# EAGLE library part FT8U100AX (library FT8U100AX)
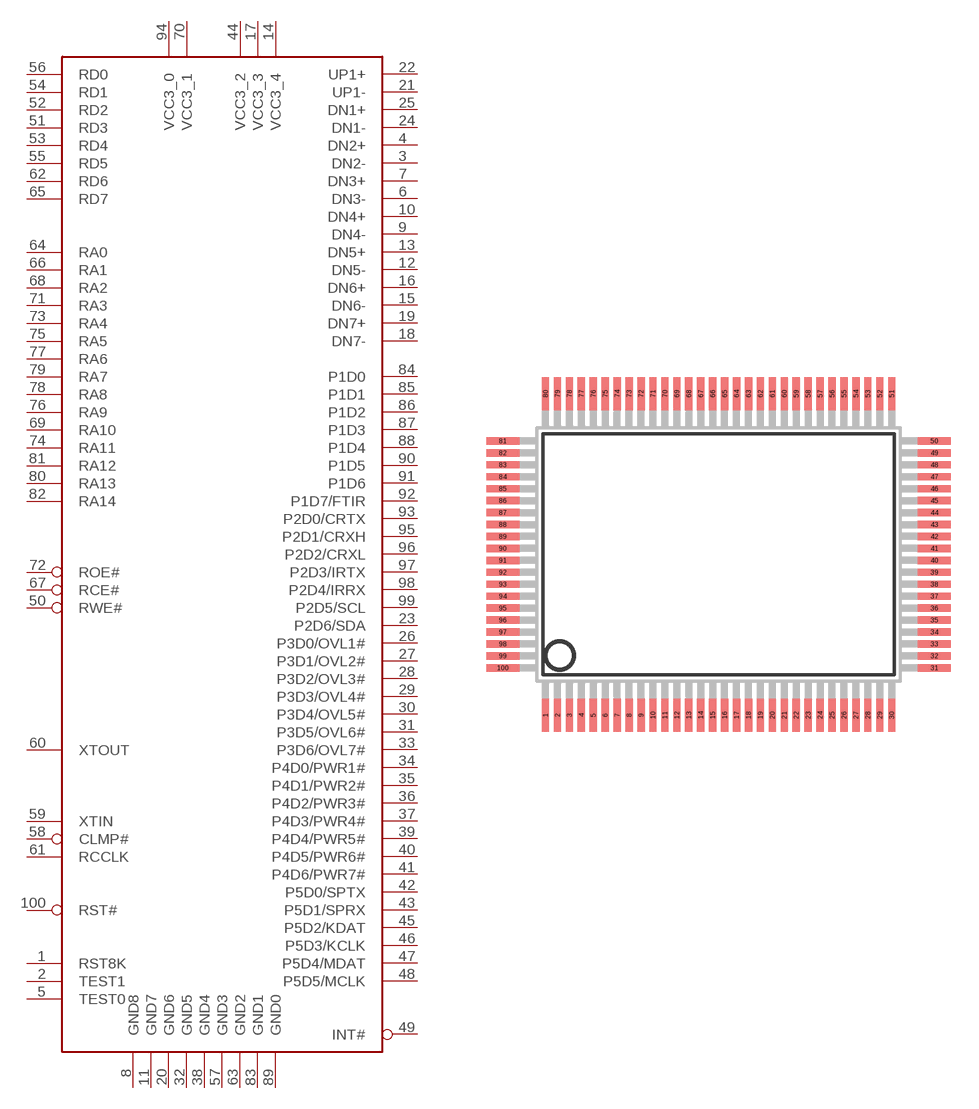
[diagram p0: symbol with the pads of QFP-100; footprint QFP-100]

Designator prefix IC

## FT8U100AX  [QFP-100]
1  RST8K
2  TEST1
3  DN2-
4  DN2+
5  TEST0
6  DN3-
7  DN3+
8  GND8
9  DN4-
10  DN4+
11  GND7
12  DN5-
13  DN5+
14  VCC3_4
15  DN6-
16  DN6+
17  VCC3_3
18  DN7-
19  DN7+
20  GND6
21  UP1-
22  UP1+
23  P2D6/SDA
24  DN1-
25  DN1+
26  P3D0/OVL1#
27  P3D1/OVL2#
28  P3D2/OVL3#
29  P3D3/OVL4#
30  P3D4/OVL5#
31  P3D5/OVL6#
32  GND5
33  P3D6/OVL7#
34  P4D0/PWR1#
35  P4D1/PWR2#
36  P4D2/PWR3#
37  P4D3/PWR4#
38  GND4
39  P4D4/PWR5#
40  P4D5/PWR6#
41  P4D6/PWR7#
42  P5D0/SPTX
43  P5D1/SPRX
44  VCC3_2
45  P5D2/KDAT
46  P5D3/KCLK
47  P5D4/MDAT
48  P5D5/MCLK
49  INT#
50  RWE#
51  RD3
52  RD2
53  RD4
54  RD1
55  RD5
56  RD0
57  GND3
58  CLMP#
59  XTIN
60  XTOUT
61  RCCLK
62  RD6
63  GND2
64  RA0
65  RD7
66  RA1
67  RCE#
68  RA2
69  RA10
70  VCC3_1
71  RA3
72  ROE#
73  RA4
74  RA11
75  RA5
76  RA9
77  RA6
78  RA8
79  RA7
80  RA13
81  RA12
82  RA14
83  GND1
84  P1D0
85  P1D1
86  P1D2
87  P1D3
88  P1D4
89  GND0
90  P1D5
91  P1D6
92  P1D7/FTIR
93  P2D0/CRTX
94  VCC3_0
95  P2D1/CRXH
96  P2D2/CRXL
97  P2D3/IRTX
98  P2D4/IRRX
99  P2D5/SCL
100  RST#

## Footprint QFP-100 (pad centres in mm)
smd 0.4 x 1.8: 1 -9.425,-8.75; 2 -8.775,-8.75; 3 -8.125,-8.75; 4 -7.475,-8.75; 5 -6.825,-8.75; 6 -6.175,-8.75; 7 -5.525,-8.75; 8 -4.875,-8.75; 9 -4.225,-8.75; 10 -3.575,-8.75; 11 -2.925,-8.75; 12 -2.275,-8.75; 13 -1.625,-8.75; 14 -0.975,-8.75; 15 -0.325,-8.75; 16 0.325,-8.75; 17 0.975,-8.75; 18 1.625,-8.75; 19 2.275,-8.75; 20 2.925,-8.75; 21 3.575,-8.75; 22 4.225,-8.75; 23 4.875,-8.75; 24 5.525,-8.75; 25 6.175,-8.75; 26 6.825,-8.75; 27 7.475,-8.75; 28 8.125,-8.75; 29 8.775,-8.75; 30 9.425,-8.75; 51 9.425,8.75; 52 8.775,8.75; 53 8.125,8.75; 54 7.475,8.75; 55 6.825,8.75; 56 6.175,8.75; 57 5.525,8.75; 58 4.875,8.75; 59 4.225,8.75; 60 3.575,8.75; 61 2.925,8.75; 62 2.275,8.75; 63 1.625,8.75; 64 0.975,8.75; 65 0.325,8.75; 66 -0.325,8.75; 67 -0.975,8.75; 68 -1.625,8.75; 69 -2.275,8.75; 70 -2.925,8.75; 71 -3.575,8.75; 72 -4.225,8.75; 73 -4.875,8.75; 74 -5.525,8.75; 75 -6.175,8.75; 76 -6.825,8.75; 77 -7.475,8.75; 78 -8.125,8.75; 79 -8.775,8.75; 80 -9.425,8.75
smd 1.8 x 0.4: 31 11.75,-6.175; 32 11.75,-5.525; 33 11.75,-4.875; 34 11.75,-4.225; 35 11.75,-3.575; 36 11.75,-2.925; 37 11.75,-2.275; 38 11.75,-1.625; 39 11.75,-0.975; 40 11.75,-0.325; 41 11.75,0.325; 42 11.75,0.975; 43 11.75,1.625; 44 11.75,2.275; 45 11.75,2.925; 46 11.75,3.575; 47 11.75,4.225; 48 11.75,4.875; 49 11.75,5.525; 50 11.75,6.175; 81 -11.75,6.175; 82 -11.75,5.525; 83 -11.75,4.875; 84 -11.75,4.225; 85 -11.75,3.575; 86 -11.75,2.925; 87 -11.75,2.275; 88 -11.75,1.625; 89 -11.75,0.975; 90 -11.75,0.325; 91 -11.75,-0.325; 92 -11.75,-0.975; 93 -11.75,-1.625; 94 -11.75,-2.275; 95 -11.75,-2.925; 96 -11.75,-3.575; 97 -11.75,-4.225; 98 -11.75,-4.875; 99 -11.75,-5.525; 100 -11.75,-6.175